# EAGLE library part LTC2439-1IGN#PBF (library LTC2439-1IGN#PBF)
LINEAR TECHNOLOGY - LTC2439-1IGN#PBF - Analogue to Digital Converter, Octal, 16 bit, 6.9 SPS, Differential, Single Ended, SPI, Single Source: Datasheet <https://datasheet.datasheetarchive.com/originals/distributors/SFDatasheet-4/sf-00091692.pdf>
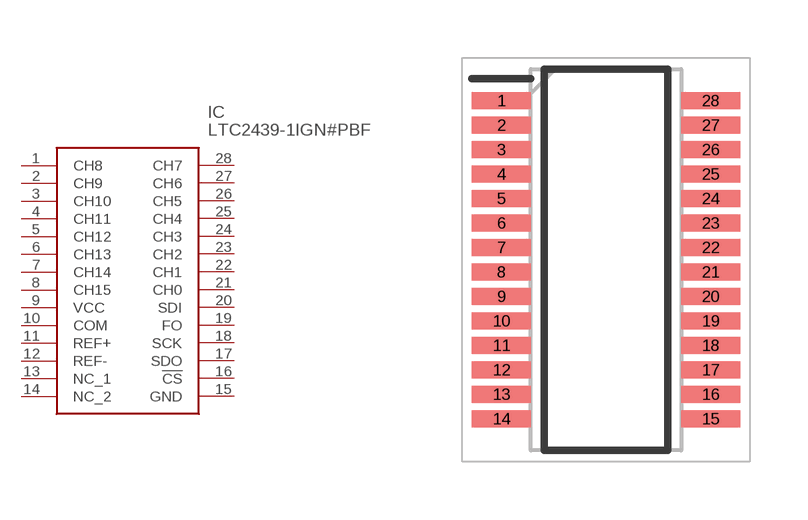
[diagram p0: symbol with the pads of SOP64P601X175-28N; footprint SOP64P601X175-28N]

Designator prefix IC

## LTC2439-1IGN#PBF (Arrow_Part_Number: LTC2439-1IGN#PBF; Arrow_Price-Stock: https://www.arrow.com/en/products/ltc2439-1ignpbf/analog-devices?region=nac; Description: LINEAR TECHNOLOGY - LTC2439-1IGN#PBF - Analogue to Digital Converter, Octal, 16 bit, 6.9 SPS, Differential, Single Ended, SPI, Single; Height: 1.75mm; Manufacturer_Name: Analog Devices; Manufacturer_Part_Number: LTC2439-1IGN#PBF; Mouser_Part_Number: 584-LTC2439-1IGN#PBF; Mouser_Price-Stock: https://www.mouser.co.uk/ProductDetail/Analog-Devices/LTC2439-1IGNPBF?qs=hVkxg5c3xu%2F3ZSVw0cv92Q%3D%3D)  [SOP64P601X175-28N]
1  CH8
2  CH9
3  CH10
4  CH11
5  CH12
6  CH13
7  CH14
8  CH15
9  VCC
10  COM
11  REF+
12  REF-
13  NC_1
14  NC_2
15  GND
16  !CS
17  SDO
18  SCK
19  FO
20  SDI
21  CH0
22  CH1
23  CH2
24  CH3
25  CH4
26  CH5
27  CH6
28  CH7

## Footprint SOP64P601X175-28N (pad centres in mm)
28-Lead Plastic SSOP 1
smd 1.526 x 0.435: 1 -2.712,4.128; 2 -2.712,3.492; 3 -2.712,2.858; 4 -2.712,2.222; 5 -2.712,1.588; 6 -2.712,0.952; 7 -2.712,0.318; 8 -2.712,-0.318; 9 -2.712,-0.952; 10 -2.712,-1.588; 11 -2.712,-2.222; 12 -2.712,-2.858; 13 -2.712,-3.492; 14 -2.712,-4.128; 15 2.712,-4.128; 16 2.712,-3.492; 17 2.712,-2.858; 18 2.712,-2.222; 19 2.712,-1.588; 20 2.712,-0.952; 21 2.712,-0.318; 22 2.712,0.318; 23 2.712,0.952; 24 2.712,1.588; 25 2.712,2.222; 26 2.712,2.858; 27 2.712,3.492; 28 2.712,4.128